# EAGLE library part SAM_ARM_JTAG (library jack)
SAM ARM JTAG programming header
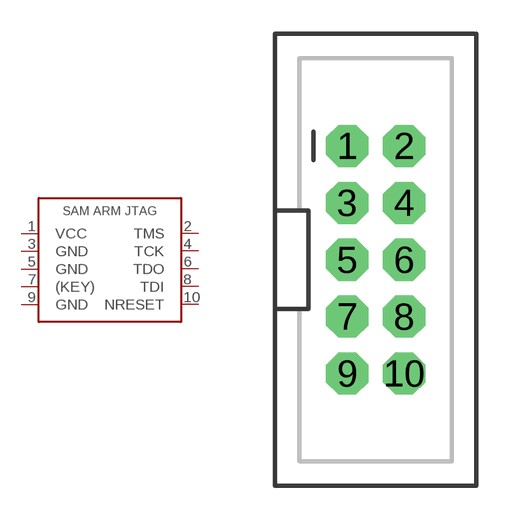
[diagram p2: symbol with the pads of 2X5-SHROUDED; footprint 2X5-SHROUDED]

Designator prefix JP

## SAM_ARM_JTAG  [2X5-SHROUDED]
1  VCC
2  TMS
3  GND
4  TCK
5  GND
6  TDO
7  (KEY)
8  TDI
9  GND
10  NRESET

## Footprint 2X5-SHROUDED (pad centres in mm)
drill 1.016 pad 1.88 octagon: 1 -1.27,5.08; 2 1.27,5.08; 3 -1.27,2.54; 4 1.27,2.54; 5 -1.27,0; 6 1.27,0; 7 -1.27,-2.54; 8 1.27,-2.54; 9 -1.27,-5.08; 10 1.27,-5.08